# Altium schematic symbol library Button_SMD.SchLib: 1 symbol
Pins are listed as number, name and electrical type; pins without a type are passive.

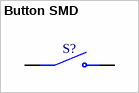
[diagram p0: symbol Button SMD]

## Button SMD
designator S?  (value not drawn)
Nút Nhấn 4x4mm Cao 1.5mm 4 Chân SMD Chống Nước; MP: 8-1437565-1; Package: None; Price: None; Availability: Unavailable; Value: *
footprint SW_8-1437565-1
pins: 1 COM, 2 COM, 3 NO, 4 NO